# EAGLE library part TDA3673 (library v-reg)
Fixed 3.3V LDO regulator Philips Semiconductor
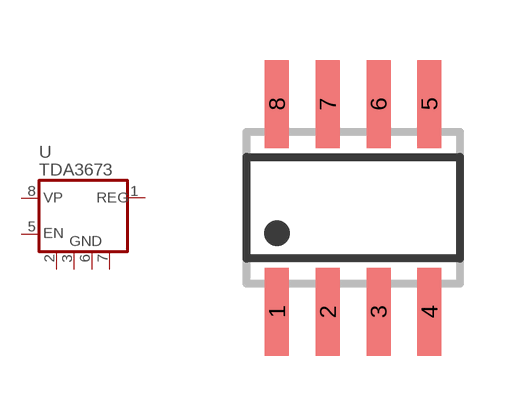
[diagram p12: symbol with the pads of SO08; footprint SO08]

Designator prefix U

## TDA3673AT  [SO08]
1  REG  pas
2  GND  in
3  GND1  in
5  EN  in
6  GND2  in
7  GND3  in
8  VP  in

## Footprint SO08 (pad centres in mm)
SMALL OUTLINE INTEGRATED CIRCUIT body 3.9 mm/JEDEC MS-012AA
smd 0.6 x 2.2: 1 -1.905,-2.6; 2 -0.635,-2.6; 3 0.635,-2.6; 4 1.905,-2.6; 5 1.905,2.6; 6 0.635,2.6; 7 -0.635,2.6; 8 -1.905,2.6